# Altium integrated library WE-PD SMD Shielded Power Inductor.IntLib: 278 symbols (part 1 of 3)
Pins are listed as number, name and electrical type; pins without a type are passive.

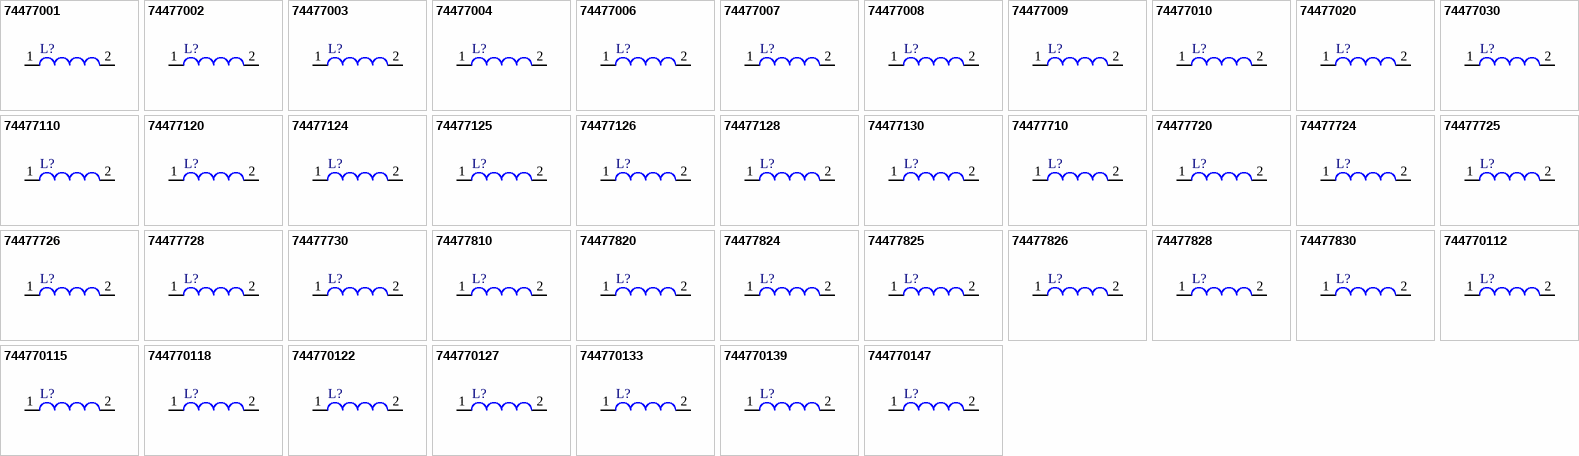
[diagram p0: symbols 74477001 to 744770147]

## 74477001
designator L?
SMD-Shielded Power Inductor WE-PD, L = 1.20 µH; PartNumber: 74477001; Inductance: 1.20 µH; DatasheetVersion: ver 5, Oct-2004; PackageReference: WE-PD-XL; PackageDescription: SMD Inductor, 2-Leads, Body 12.0 x 12.0 mm; ComponentLink1Description: Manufacturer URL; ComponentLink1URL: http://www.we-online.com; ComponentLink2Description: Datasheet; ComponentLink2URL: http://www.we-online.de/katalog/media/pdf/74477001.pdf
footprint WE-PD-XL (SMD Inductor, 2-Leads, Body 12.0x12.0x8.0 mm)
pins: 1, 2

## 74477002
designator L?
SMD-Shielded Power Inductor WE-PD, L = 2.40 µH; PartNumber: 74477002; Inductance: 2.40 µH; DatasheetVersion: ver 5, Oct-2004; PackageReference: WE-PD-XL; PackageDescription: SMD Inductor, 2-Leads, Body 12.0 x 12.0 mm; ComponentLink1Description: Manufacturer URL; ComponentLink1URL: http://www.we-online.com; ComponentLink2Description: Datasheet; ComponentLink2URL: http://www.we-online.de/katalog/media/pdf/74477002.pdf
footprint WE-PD-XL (SMD Inductor, 2-Leads, Body 12.0x12.0x8.0 mm)
pins: 1, 2

## 74477003
designator L?
SMD-Shielded Power Inductor WE-PD, L = 3.50 µH; PartNumber: 74477003; Inductance: 3.50 µH; DatasheetVersion: ver 5, Oct-2004; PackageReference: WE-PD-XL; PackageDescription: SMD Inductor, 2-Leads, Body 12.0 x 12.0 mm; ComponentLink1Description: Manufacturer URL; ComponentLink1URL: http://www.we-online.com; ComponentLink2Description: Datasheet; ComponentLink2URL: http://www.we-online.de/katalog/media/pdf/74477003.pdf
footprint WE-PD-XL (SMD Inductor, 2-Leads, Body 12.0x12.0x8.0 mm)
pins: 1, 2

## 74477004
designator L?
SMD-Shielded Power Inductor WE-PD, L = 4.70 µH; PartNumber: 74477004; Inductance: 4.70 µH; DatasheetVersion: ver 5, Oct-2004; PackageReference: WE-PD-XL; PackageDescription: SMD Inductor, 2-Leads, Body 12.0 x 12.0 mm; ComponentLink1Description: Manufacturer URL; ComponentLink1URL: http://www.we-online.com; ComponentLink2Description: Datasheet; ComponentLink2URL: http://www.we-online.de/katalog/media/pdf/74477004.pdf
footprint WE-PD-XL (SMD Inductor, 2-Leads, Body 12.0x12.0x8.0 mm)
pins: 1, 2

## 74477006
designator L?
SMD-Shielded Power Inductor WE-PD, L = 6.10 µH; PartNumber: 74477006; Inductance: 6.10 µH; DatasheetVersion: ver 5, Oct-2004; PackageReference: WE-PD-XL; PackageDescription: SMD Inductor, 2-Leads, Body 12.0 x 12.0 mm; ComponentLink1Description: Manufacturer URL; ComponentLink1URL: http://www.we-online.com; ComponentLink2Description: Datasheet; ComponentLink2URL: http://www.we-online.de/katalog/media/pdf/74477006.pdf
footprint WE-PD-XL (SMD Inductor, 2-Leads, Body 12.0x12.0x8.0 mm)
pins: 1, 2

## 74477007
designator L?
SMD-Shielded Power Inductor WE-PD, L = 7.60 µH; PartNumber: 74477007; Inductance: 7.60 µH; DatasheetVersion: ver 5, Oct-2004; PackageReference: WE-PD-XL; PackageDescription: SMD Inductor, 2-Leads, Body 12.0 x 12.0 mm; ComponentLink1Description: Manufacturer URL; ComponentLink1URL: http://www.we-online.com; ComponentLink2Description: Datasheet; ComponentLink2URL: http://www.we-online.de/katalog/media/pdf/74477007.pdf
footprint WE-PD-XL (SMD Inductor, 2-Leads, Body 12.0x12.0x8.0 mm)
pins: 1, 2

## 74477008
designator L?
SMD-Shielded Power Inductor WE-PD, L = 0.75 µH; PartNumber: 74477008; Inductance: 0.75 µH; DatasheetVersion: ver 5, Oct-2004; PackageReference: WE-PD-XL; PackageDescription: SMD Inductor, 2-Leads, Body 12.0 x 12.0 mm; ComponentLink1Description: Manufacturer URL; ComponentLink1URL: http://www.we-online.com; ComponentLink2Description: Datasheet; ComponentLink2URL: http://www.we-online.de/katalog/media/pdf/74477008.pdf
footprint WE-PD-XL (SMD Inductor, 2-Leads, Body 12.0x12.0x8.0 mm)
pins: 1, 2

## 74477009
designator L?
SMD-Shielded Power Inductor WE-PD, L = 0.47 µH; PartNumber: 74477009; Inductance: 0.47 µH; DatasheetVersion: ver 5, Oct-2004; PackageReference: WE-PD-XL; PackageDescription: SMD Inductor, 2-Leads, Body 12.0 x 12.0 mm; ComponentLink1Description: Manufacturer URL; ComponentLink1URL: http://www.we-online.com; ComponentLink2Description: Datasheet; ComponentLink2URL: http://www.we-online.de/katalog/media/pdf/74477009.pdf
footprint WE-PD-XL (SMD Inductor, 2-Leads, Body 12.0x12.0x8.0 mm)
pins: 1, 2

## 74477010
designator L?
SMD-Shielded Power Inductor WE-PD, L = 10.0 µH; PartNumber: 74477010; Inductance: 10.0 µH; DatasheetVersion: ver 5, Oct-2004; PackageReference: WE-PD-XL; PackageDescription: SMD Inductor, 2-Leads, Body 12.0 x 12.0 mm; ComponentLink1Description: Manufacturer URL; ComponentLink1URL: http://www.we-online.com; ComponentLink2Description: Datasheet; ComponentLink2URL: http://www.we-online.de/katalog/media/pdf/74477010.pdf
footprint WE-PD-XL (SMD Inductor, 2-Leads, Body 12.0x12.0x8.0 mm)
pins: 1, 2

## 74477020
designator L?
SMD-Shielded Power Inductor WE-PD, L = 100 µH; PartNumber: 74477020; Inductance: 100 µH; DatasheetVersion: ver 5, Oct-2004; PackageReference: WE-PD-XL; PackageDescription: SMD Inductor, 2-Leads, Body 12.0 x 12.0 mm; ComponentLink1Description: Manufacturer URL; ComponentLink1URL: http://www.we-online.com; ComponentLink2Description: Datasheet; ComponentLink2URL: http://www.we-online.de/katalog/media/pdf/74477020.pdf
footprint WE-PD-XL (SMD Inductor, 2-Leads, Body 12.0x12.0x8.0 mm)
pins: 1, 2

## 74477030
designator L?
SMD-Shielded Power Inductor WE-PD, L = 1000 µH; PartNumber: 74477030; Inductance: 1000 µH; DatasheetVersion: ver 5, Oct-2004; PackageReference: WE-PD-XL; PackageDescription: SMD Inductor, 2-Leads, Body 12.0 x 12.0 mm; ComponentLink1Description: Manufacturer URL; ComponentLink1URL: http://www.we-online.com; ComponentLink2Description: Datasheet; ComponentLink2URL: http://www.we-online.de/katalog/media/pdf/74477030.pdf
footprint WE-PD-XL (SMD Inductor, 2-Leads, Body 12.0x12.0x8.0 mm)
pins: 1, 2

## 74477110
designator L?
SMD-Shielded Power Inductor WE-PD, L = 10.0 µH; PartNumber: 74477110; Inductance: 10.0 µH; DatasheetVersion: ver 7, Sep-2006; PackageReference: WE-PD-L; PackageDescription: SMD Inductor, 2-Leads, Body 12.0 x 12.0 mm; ComponentLink1Description: Manufacturer URL; ComponentLink1URL: http://www.we-online.com; ComponentLink2Description: Datasheet; ComponentLink2URL: http://www.we-online.de/katalog/media/pdf/74477110.pdf
footprint WE-PD-L (SMD Inductor, 2-Leads, Body 12.0x12.0x6.0 mm)
pins: 1, 2

## 74477120
designator L?
SMD-Shielded Power Inductor WE-PD, L = 100 µH; PartNumber: 74477120; Inductance: 100 µH; DatasheetVersion: ver 6, Jun-2005; PackageReference: WE-PD-L; PackageDescription: SMD Inductor, 2-Leads, Body 12.0 x 12.0 mm; ComponentLink1Description: Manufacturer URL; ComponentLink1URL: http://www.we-online.com; ComponentLink2Description: Datasheet; ComponentLink2URL: http://www.we-online.de/katalog/media/pdf/74477120.pdf
footprint WE-PD-L (SMD Inductor, 2-Leads, Body 12.0x12.0x6.0 mm)
pins: 1, 2

## 74477124
designator L?
SMD-Shielded Power Inductor WE-PD, L = 470 µH; PartNumber: 74477124; Inductance: 470 µH; DatasheetVersion: ver 6, Jun-2005; PackageReference: WE-PD-L; PackageDescription: SMD Inductor, 2-Leads, Body 12.0 x 12.0 mm; ComponentLink1Description: Manufacturer URL; ComponentLink1URL: http://www.we-online.com; ComponentLink2Description: Datasheet; ComponentLink2URL: http://www.we-online.de/katalog/media/pdf/74477124.pdf
footprint WE-PD-L (SMD Inductor, 2-Leads, Body 12.0x12.0x6.0 mm)
pins: 1, 2

## 74477125
designator L?
SMD-Shielded Power Inductor WE-PD, L = 560 µH; PartNumber: 74477125; Inductance: 560 µH; DatasheetVersion: ver 6, Jun-2005; PackageReference: WE-PD-L; PackageDescription: SMD Inductor, 2-Leads, Body 12.0 x 12.0 mm; ComponentLink1Description: Manufacturer URL; ComponentLink1URL: http://www.we-online.com; ComponentLink2Description: Datasheet; ComponentLink2URL: http://www.we-online.de/katalog/media/pdf/74477125.pdf
footprint WE-PD-L (SMD Inductor, 2-Leads, Body 12.0x12.0x6.0 mm)
pins: 1, 2

## 74477126
designator L?
SMD-Shielded Power Inductor WE-PD, L = 680 µH; PartNumber: 74477126; Inductance: 680 µH; DatasheetVersion: ver 6, Jun-2005; PackageReference: WE-PD-L; PackageDescription: SMD Inductor, 2-Leads, Body 12.0 x 12.0 mm; ComponentLink1Description: Manufacturer URL; ComponentLink1URL: http://www.we-online.com; ComponentLink2Description: Datasheet; ComponentLink2URL: http://www.we-online.de/katalog/media/pdf/74477126.pdf
footprint WE-PD-L (SMD Inductor, 2-Leads, Body 12.0x12.0x6.0 mm)
pins: 1, 2

## 74477128
designator L?
SMD-Shielded Power Inductor WE-PD, L = 820 µH; PartNumber: 74477128; Inductance: 820 µH; DatasheetVersion: ver 6, Jun-2005; PackageReference: WE-PD-L; PackageDescription: SMD Inductor, 2-Leads, Body 12.0 x 12.0 mm; ComponentLink1Description: Manufacturer URL; ComponentLink1URL: http://www.we-online.com; ComponentLink2Description: Datasheet; ComponentLink2URL: http://www.we-online.de/katalog/media/pdf/74477128.pdf
footprint WE-PD-L (SMD Inductor, 2-Leads, Body 12.0x12.0x6.0 mm)
pins: 1, 2

## 74477130
designator L?
SMD-Shielded Power Inductor WE-PD, L = 1000 µH; PartNumber: 74477130; Inductance: 1000 µH; DatasheetVersion: ver 6, Jun-2005; PackageReference: WE-PD-L; PackageDescription: SMD Inductor, 2-Leads, Body 12.0 x 12.0 mm; ComponentLink1Description: Manufacturer URL; ComponentLink1URL: http://www.we-online.com; ComponentLink2Description: Datasheet; ComponentLink2URL: http://www.we-online.de/katalog/media/pdf/74477130.pdf
footprint WE-PD-L (SMD Inductor, 2-Leads, Body 12.0x12.0x6.0 mm)
pins: 1, 2

## 74477710
designator L?
SMD-Shielded Power Inductor WE-PD, L = 10.0 µH; PartNumber: 74477710; Inductance: 10.0 µH; DatasheetVersion: ver 2, Oct-2004; PackageReference: WE-PD-M; PackageDescription: SMD Inductor, 2-Leads, Body 7.3 x 7.3 mm; ComponentLink1Description: Manufacturer URL; ComponentLink1URL: http://www.we-online.com; ComponentLink2Description: Datasheet; ComponentLink2URL: http://www.we-online.de/katalog/media/pdf/74477710.pdf
footprint WE-PD-M (SMD Inductor, 2-Leads, Body 7.3x7.3x4.5 mm)
pins: 1, 2

## 74477720
designator L?
SMD-Shielded Power Inductor WE-PD, L = 100 µH; PartNumber: 74477720; Inductance: 100 µH; DatasheetVersion: ver 2, Oct-2004; PackageReference: WE-PD-M; PackageDescription: SMD Inductor, 2-Leads, Body 7.3 x 7.3 mm; ComponentLink1Description: Manufacturer URL; ComponentLink1URL: http://www.we-online.com; ComponentLink2Description: Datasheet; ComponentLink2URL: http://www.we-online.de/katalog/media/pdf/74477720.pdf
footprint WE-PD-M (SMD Inductor, 2-Leads, Body 7.3x7.3x4.5 mm)
pins: 1, 2

## 74477724
designator L?
SMD-Shielded Power Inductor WE-PD, L = 470 µH; PartNumber: 74477724; Inductance: 470 µH; DatasheetVersion: ver 2, Oct-2004; PackageReference: WE-PD-M; PackageDescription: SMD Inductor, 2-Leads, Body 7.3 x 7.3 mm; ComponentLink1Description: Manufacturer URL; ComponentLink1URL: http://www.we-online.com; ComponentLink2Description: Datasheet; ComponentLink2URL: http://www.we-online.de/katalog/media/pdf/74477724.pdf
footprint WE-PD-M (SMD Inductor, 2-Leads, Body 7.3x7.3x4.5 mm)
pins: 1, 2

## 74477725
designator L?
SMD-Shielded Power Inductor WE-PD, L = 560 µH; PartNumber: 74477725; Inductance: 560 µH; DatasheetVersion: ver 2, Oct-2004; PackageReference: WE-PD-M; PackageDescription: SMD Inductor, 2-Leads, Body 7.3 x 7.3 mm; ComponentLink1Description: Manufacturer URL; ComponentLink1URL: http://www.we-online.com; ComponentLink2Description: Datasheet; ComponentLink2URL: http://www.we-online.de/katalog/media/pdf/74477725.pdf
footprint WE-PD-M (SMD Inductor, 2-Leads, Body 7.3x7.3x4.5 mm)
pins: 1, 2

## 74477726
designator L?
SMD-Shielded Power Inductor WE-PD, L = 680 µH; PartNumber: 74477726; Inductance: 680 µH; DatasheetVersion: ver 2, Oct-2004; PackageReference: WE-PD-M; PackageDescription: SMD Inductor, 2-Leads, Body 7.3 x 7.3 mm; ComponentLink1Description: Manufacturer URL; ComponentLink1URL: http://www.we-online.com; ComponentLink2Description: Datasheet; ComponentLink2URL: http://www.we-online.de/katalog/media/pdf/74477726.pdf
footprint WE-PD-M (SMD Inductor, 2-Leads, Body 7.3x7.3x4.5 mm)
pins: 1, 2

## 74477728
designator L?
SMD-Shielded Power Inductor WE-PD, L = 820 µH; PartNumber: 74477728; Inductance: 820 µH; DatasheetVersion: ver 2, Oct-2004; PackageReference: WE-PD-M; PackageDescription: SMD Inductor, 2-Leads, Body 7.3 x 7.3 mm; ComponentLink1Description: Manufacturer URL; ComponentLink1URL: http://www.we-online.com; ComponentLink2Description: Datasheet; ComponentLink2URL: http://www.we-online.de/katalog/media/pdf/74477728.pdf
footprint WE-PD-M (SMD Inductor, 2-Leads, Body 7.3x7.3x4.5 mm)
pins: 1, 2

## 74477730
designator L?
SMD-Shielded Power Inductor WE-PD, L = 1000 µH; PartNumber: 74477730; Inductance: 1000 µH; DatasheetVersion: ver 4, Oct-2004; PackageReference: WE-PD-M; PackageDescription: SMD Inductor, 2-Leads, Body 7.3 x 7.3 mm; ComponentLink1Description: Manufacturer URL; ComponentLink1URL: http://www.we-online.com; ComponentLink2Description: Datasheet; ComponentLink2URL: http://www.we-online.de/katalog/media/pdf/74477730.pdf
footprint WE-PD-M (SMD Inductor, 2-Leads, Body 7.3x7.3x4.5 mm)
pins: 1, 2

## 74477810
designator L?
SMD-Shielded Power Inductor WE-PD, L = 10.0 µH; PartNumber: 74477810; Inductance: 10.0 µH; DatasheetVersion: ver 6, Oct-2001; PackageReference: WE-PD-S; PackageDescription: SMD Inductor, 2-Leads, Body 7.3 x 7.3 mm; ComponentLink1Description: Manufacturer URL; ComponentLink1URL: http://www.we-online.com; ComponentLink2Description: Datasheet; ComponentLink2URL: http://www.we-online.de/katalog/media/pdf/74477810.pdf
footprint WE-PD-S (SMD Inductor, 2-Leads, Body 7.3x7.3x3.4 mm)
pins: 1, 2

## 74477820
designator L?
SMD-Shielded Power Inductor WE-PD, L = 100 µH; PartNumber: 74477820; Inductance: 100 µH; DatasheetVersion: ver 5, Oct-2004; PackageReference: WE-PD-S; PackageDescription: SMD Inductor, 2-Leads, Body 7.3 x 7.3 mm; ComponentLink1Description: Manufacturer URL; ComponentLink1URL: http://www.we-online.com; ComponentLink2Description: Datasheet; ComponentLink2URL: http://www.we-online.de/katalog/media/pdf/74477820.pdf
footprint WE-PD-S (SMD Inductor, 2-Leads, Body 7.3x7.3x3.4 mm)
pins: 1, 2

## 74477824
designator L?
SMD-Shielded Power Inductor WE-PD, L = 470 µH; PartNumber: 74477824; Inductance: 470 µH; DatasheetVersion: ver 5, Oct-2004; PackageReference: WE-PD-S; PackageDescription: SMD Inductor, 2-Leads, Body 7.3 x 7.3 mm; ComponentLink1Description: Manufacturer URL; ComponentLink1URL: http://www.we-online.com; ComponentLink2Description: Datasheet; ComponentLink2URL: http://www.we-online.de/katalog/media/pdf/74477824.pdf
footprint WE-PD-S (SMD Inductor, 2-Leads, Body 7.3x7.3x3.4 mm)
pins: 1, 2

## 74477825
designator L?
SMD-Shielded Power Inductor WE-PD, L = 560 µH; PartNumber: 74477825; Inductance: 560 µH; DatasheetVersion: ver 5, Oct-2004; PackageReference: WE-PD-S; PackageDescription: SMD Inductor, 2-Leads, Body 7.3 x 7.3 mm; ComponentLink1Description: Manufacturer URL; ComponentLink1URL: http://www.we-online.com; ComponentLink2Description: Datasheet; ComponentLink2URL: http://www.we-online.de/katalog/media/pdf/74477825.pdf
footprint WE-PD-S (SMD Inductor, 2-Leads, Body 7.3x7.3x3.4 mm)
pins: 1, 2

## 74477826
designator L?
SMD-Shielded Power Inductor WE-PD, L = 680 µH; PartNumber: 74477826; Inductance: 680 µH; DatasheetVersion: ver 5, Oct-2004; PackageReference: WE-PD-S; PackageDescription: SMD Inductor, 2-Leads, Body 7.3 x 7.3 mm; ComponentLink1Description: Manufacturer URL; ComponentLink1URL: http://www.we-online.com; ComponentLink2Description: Datasheet; ComponentLink2URL: http://www.we-online.de/katalog/media/pdf/74477826.pdf
footprint WE-PD-S (SMD Inductor, 2-Leads, Body 7.3x7.3x3.4 mm)
pins: 1, 2

## 74477828
designator L?
SMD-Shielded Power Inductor WE-PD, L = 820 µH; PartNumber: 74477828; Inductance: 820 µH; DatasheetVersion: ver 5, Oct-2004; PackageReference: WE-PD-S; PackageDescription: SMD Inductor, 2-Leads, Body 7.3 x 7.3 mm; ComponentLink1Description: Manufacturer URL; ComponentLink1URL: http://www.we-online.com; ComponentLink2Description: Datasheet; ComponentLink2URL: http://www.we-online.de/katalog/media/pdf/74477828.pdf
footprint WE-PD-S (SMD Inductor, 2-Leads, Body 7.3x7.3x3.4 mm)
pins: 1, 2

## 74477830
designator L?
SMD-Shielded Power Inductor WE-PD, L = 1000 µH; PartNumber: 74477830; Inductance: 1000 µH; DatasheetVersion: ver 5, Oct-2004; PackageReference: WE-PD-S; PackageDescription: SMD Inductor, 2-Leads, Body 7.3 x 7.3 mm; ComponentLink1Description: Manufacturer URL; ComponentLink1URL: http://www.we-online.com; ComponentLink2Description: Datasheet; ComponentLink2URL: http://www.we-online.de/katalog/media/pdf/74477830.pdf
footprint WE-PD-S (SMD Inductor, 2-Leads, Body 7.3x7.3x3.4 mm)
pins: 1, 2

## 744770112
designator L?
SMD-Shielded Power Inductor WE-PD, L = 12.0 µH; PartNumber: 744770112; Inductance: 12.0 µH; DatasheetVersion: ver 5, Oct-2004; PackageReference: WE-PD-XL; PackageDescription: SMD Inductor, 2-Leads, Body 12.0 x 12.0 mm; ComponentLink1Description: Manufacturer URL; ComponentLink1URL: http://www.we-online.com; ComponentLink2Description: Datasheet; ComponentLink2URL: http://www.we-online.de/katalog/media/pdf/744770112.pdf
footprint WE-PD-XL (SMD Inductor, 2-Leads, Body 12.0x12.0x8.0 mm)
pins: 1, 2

## 744770115
designator L?
SMD-Shielded Power Inductor WE-PD, L = 15.0 µH; PartNumber: 744770115; Inductance: 15.0 µH; DatasheetVersion: ver 5, Oct-2004; PackageReference: WE-PD-XL; PackageDescription: SMD Inductor, 2-Leads, Body 12.0 x 12.0 mm; ComponentLink1Description: Manufacturer URL; ComponentLink1URL: http://www.we-online.com; ComponentLink2Description: Datasheet; ComponentLink2URL: http://www.we-online.de/katalog/media/pdf/744770115.pdf
footprint WE-PD-XL (SMD Inductor, 2-Leads, Body 12.0x12.0x8.0 mm)
pins: 1, 2

## 744770118
designator L?
SMD-Shielded Power Inductor WE-PD, L = 18.0 µH; PartNumber: 744770118; Inductance: 18.0 µH; DatasheetVersion: ver 5, Oct-2004; PackageReference: WE-PD-XL; PackageDescription: SMD Inductor, 2-Leads, Body 12.0 x 12.0 mm; ComponentLink1Description: Manufacturer URL; ComponentLink1URL: http://www.we-online.com; ComponentLink2Description: Datasheet; ComponentLink2URL: http://www.we-online.de/katalog/media/pdf/744770118.pdf
footprint WE-PD-XL (SMD Inductor, 2-Leads, Body 12.0x12.0x8.0 mm)
pins: 1, 2

## 744770122
designator L?
SMD-Shielded Power Inductor WE-PD, L = 22.0 µH; PartNumber: 744770122; Inductance: 22.0 µH; DatasheetVersion: ver 5, Oct-2004; PackageReference: WE-PD-XL; PackageDescription: SMD Inductor, 2-Leads, Body 12.0 x 12.0 mm; ComponentLink1Description: Manufacturer URL; ComponentLink1URL: http://www.we-online.com; ComponentLink2Description: Datasheet; ComponentLink2URL: http://www.we-online.de/katalog/media/pdf/744770122.pdf
footprint WE-PD-XL (SMD Inductor, 2-Leads, Body 12.0x12.0x8.0 mm)
pins: 1, 2

## 744770127
designator L?
SMD-Shielded Power Inductor WE-PD, L = 27.0 µH; PartNumber: 744770127; Inductance: 27.0 µH; DatasheetVersion: ver 5, Oct-2004; PackageReference: WE-PD-XL; PackageDescription: SMD Inductor, 2-Leads, Body 12.0 x 12.0 mm; ComponentLink1Description: Manufacturer URL; ComponentLink1URL: http://www.we-online.com; ComponentLink2Description: Datasheet; ComponentLink2URL: http://www.we-online.de/katalog/media/pdf/744770127.pdf
footprint WE-PD-XL (SMD Inductor, 2-Leads, Body 12.0x12.0x8.0 mm)
pins: 1, 2

## 744770133
designator L?
SMD-Shielded Power Inductor WE-PD, L = 33.0 µH; PartNumber: 744770133; Inductance: 33.0 µH; DatasheetVersion: ver 5, Oct-2004; PackageReference: WE-PD-XL; PackageDescription: SMD Inductor, 2-Leads, Body 12.0 x 12.0 mm; ComponentLink1Description: Manufacturer URL; ComponentLink1URL: http://www.we-online.com; ComponentLink2Description: Datasheet; ComponentLink2URL: http://www.we-online.de/katalog/media/pdf/744770133.pdf
footprint WE-PD-XL (SMD Inductor, 2-Leads, Body 12.0x12.0x8.0 mm)
pins: 1, 2

## 744770139
designator L?
SMD-Shielded Power Inductor WE-PD, L = 39.0 µH; PartNumber: 744770139; Inductance: 39.0 µH; DatasheetVersion: ver 5, Oct-2004; PackageReference: WE-PD-XL; PackageDescription: SMD Inductor, 2-Leads, Body 12.0 x 12.0 mm; ComponentLink1Description: Manufacturer URL; ComponentLink1URL: http://www.we-online.com; ComponentLink2Description: Datasheet; ComponentLink2URL: http://www.we-online.de/katalog/media/pdf/744770139.pdf
footprint WE-PD-XL (SMD Inductor, 2-Leads, Body 12.0x12.0x8.0 mm)
pins: 1, 2

## 744770147
designator L?
SMD-Shielded Power Inductor WE-PD, L = 47.0 µH; PartNumber: 744770147; Inductance: 47.0 µH; DatasheetVersion: ver 5, Oct-2004; PackageReference: WE-PD-XL; PackageDescription: SMD Inductor, 2-Leads, Body 12.0 x 12.0 mm; ComponentLink1Description: Manufacturer URL; ComponentLink1URL: http://www.we-online.com; ComponentLink2Description: Datasheet; ComponentLink2URL: http://www.we-online.de/katalog/media/pdf/744770147.pdf
footprint WE-PD-XL (SMD Inductor, 2-Leads, Body 12.0x12.0x8.0 mm)
pins: 1, 2

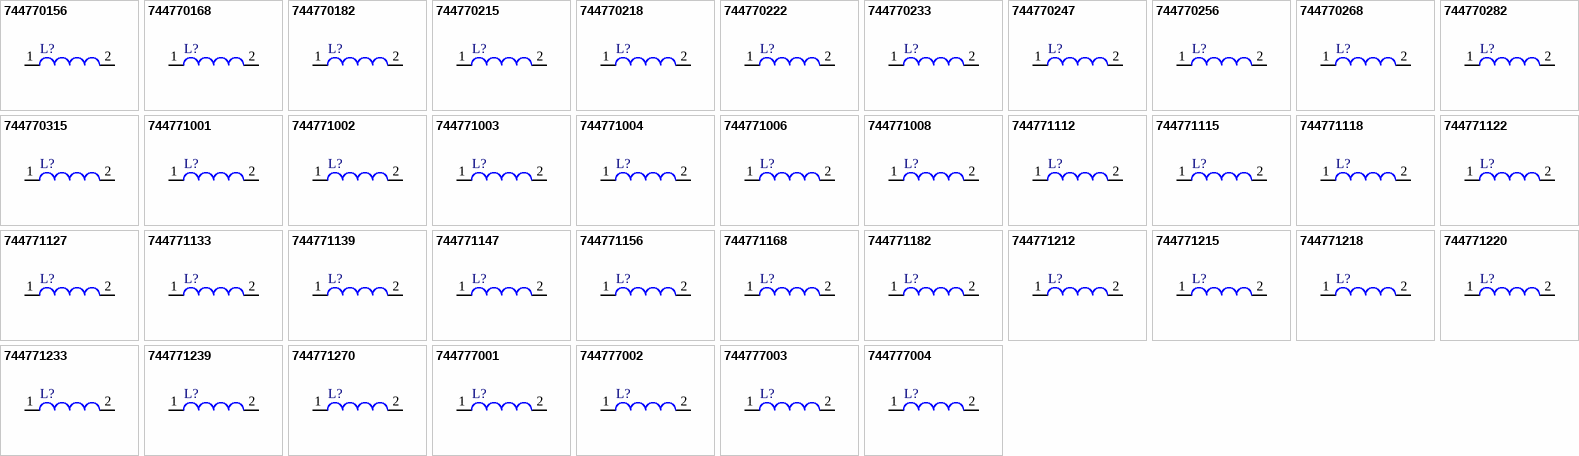
[diagram p1: symbols 744770156 to 744777004]

## 744770156
designator L?
SMD-Shielded Power Inductor WE-PD, L = 56.0 µH; PartNumber: 744770156; Inductance: 56.0 µH; DatasheetVersion: ver 5, Oct-2004; PackageReference: WE-PD-XL; PackageDescription: SMD Inductor, 2-Leads, Body 12.0 x 12.0 mm; ComponentLink1Description: Manufacturer URL; ComponentLink1URL: http://www.we-online.com; ComponentLink2Description: Datasheet; ComponentLink2URL: http://www.we-online.de/katalog/media/pdf/744770156.pdf
footprint WE-PD-XL (SMD Inductor, 2-Leads, Body 12.0x12.0x8.0 mm)
pins: 1, 2

## 744770168
designator L?
SMD-Shielded Power Inductor WE-PD, L = 68.0 µH; PartNumber: 744770168; Inductance: 68.0 µH; DatasheetVersion: ver 5, Oct-2004; PackageReference: WE-PD-XL; PackageDescription: SMD Inductor, 2-Leads, Body 12.0 x 12.0 mm; ComponentLink1Description: Manufacturer URL; ComponentLink1URL: http://www.we-online.com; ComponentLink2Description: Datasheet; ComponentLink2URL: http://www.we-online.de/katalog/media/pdf/744770168.pdf
footprint WE-PD-XL (SMD Inductor, 2-Leads, Body 12.0x12.0x8.0 mm)
pins: 1, 2

## 744770182
designator L?
SMD-Shielded Power Inductor WE-PD, L = 82.0 µH; PartNumber: 744770182; Inductance: 82.0 µH; DatasheetVersion: ver 6, Sep-2006; PackageReference: WE-PD-XL; PackageDescription: SMD Inductor, 2-Leads, Body 12.0 x 12.0 mm; ComponentLink1Description: Manufacturer URL; ComponentLink1URL: http://www.we-online.com; ComponentLink2Description: Datasheet; ComponentLink2URL: http://www.we-online.de/katalog/media/pdf/744770182.pdf
footprint WE-PD-XL (SMD Inductor, 2-Leads, Body 12.0x12.0x8.0 mm)
pins: 1, 2

## 744770215
designator L?
SMD-Shielded Power Inductor WE-PD, L = 150 µH; PartNumber: 744770215; Inductance: 150 µH; DatasheetVersion: ver 1, Jan-2006; PackageReference: WE-PD-XL; PackageDescription: SMD Inductor, 2-Leads, Body 12.0 x 12.0 mm; ComponentLink1Description: Manufacturer URL; ComponentLink1URL: http://www.we-online.com; ComponentLink2Description: Datasheet; ComponentLink2URL: http://www.we-online.de/katalog/media/pdf/744770215.pdf
footprint WE-PD-XL (SMD Inductor, 2-Leads, Body 12.0x12.0x8.0 mm)
pins: 1, 2

## 744770218
designator L?
SMD-Shielded Power Inductor WE-PD, L = 180 µH; PartNumber: 744770218; Inductance: 180 µH; DatasheetVersion: ver 5, Oct-2004; PackageReference: WE-PD-XL; PackageDescription: SMD Inductor, 2-Leads, Body 12.0 x 12.0 mm; ComponentLink1Description: Manufacturer URL; ComponentLink1URL: http://www.we-online.com; ComponentLink2Description: Datasheet; ComponentLink2URL: http://www.we-online.de/katalog/media/pdf/744770218.pdf
footprint WE-PD-XL (SMD Inductor, 2-Leads, Body 12.0x12.0x8.0 mm)
pins: 1, 2

## 744770222
designator L?
SMD-Shielded Power Inductor WE-PD, L = 220 µH; PartNumber: 744770222; Inductance: 220 µH; DatasheetVersion: ver 5, Oct-2004; PackageReference: WE-PD-XL; PackageDescription: SMD Inductor, 2-Leads, Body 12.0 x 12.0 mm; ComponentLink1Description: Manufacturer URL; ComponentLink1URL: http://www.we-online.com; ComponentLink2Description: Datasheet; ComponentLink2URL: http://www.we-online.de/katalog/media/pdf/744770222.pdf
footprint WE-PD-XL (SMD Inductor, 2-Leads, Body 12.0x12.0x8.0 mm)
pins: 1, 2

## 744770233
designator L?
SMD-Shielded Power Inductor WE-PD, L = 330 µH; PartNumber: 744770233; Inductance: 330 µH; DatasheetVersion: ver 5, Oct-2004; PackageReference: WE-PD-XL; PackageDescription: SMD Inductor, 2-Leads, Body 12.0 x 12.0 mm; ComponentLink1Description: Manufacturer URL; ComponentLink1URL: http://www.we-online.com; ComponentLink2Description: Datasheet; ComponentLink2URL: http://www.we-online.de/katalog/media/pdf/744770233.pdf
footprint WE-PD-XL (SMD Inductor, 2-Leads, Body 12.0x12.0x8.0 mm)
pins: 1, 2

## 744770247
designator L?
SMD-Shielded Power Inductor WE-PD, L = 470 µH; PartNumber: 744770247; Inductance: 470 µH; DatasheetVersion: ver 5, Oct-2004; PackageReference: WE-PD-XL; PackageDescription: SMD Inductor, 2-Leads, Body 12.0 x 12.0 mm; ComponentLink1Description: Manufacturer URL; ComponentLink1URL: http://www.we-online.com; ComponentLink2Description: Datasheet; ComponentLink2URL: http://www.we-online.de/katalog/media/pdf/744770247.pdf
footprint WE-PD-XL (SMD Inductor, 2-Leads, Body 12.0x12.0x8.0 mm)
pins: 1, 2

## 744770256
designator L?
SMD-Shielded Power Inductor WE-PD, L = 560 µH; PartNumber: 744770256; Inductance: 560 µH; DatasheetVersion: ver 5, Oct-2004; PackageReference: WE-PD-XL; PackageDescription: SMD Inductor, 2-Leads, Body 12.0 x 12.0 mm; ComponentLink1Description: Manufacturer URL; ComponentLink1URL: http://www.we-online.com; ComponentLink2Description: Datasheet; ComponentLink2URL: http://www.we-online.de/katalog/media/pdf/744770256.pdf
footprint WE-PD-XL (SMD Inductor, 2-Leads, Body 12.0x12.0x8.0 mm)
pins: 1, 2

## 744770268
designator L?
SMD-Shielded Power Inductor WE-PD, L = 680 µH; PartNumber: 744770268; Inductance: 680 µH; DatasheetVersion: ver 5, Oct-2004; PackageReference: WE-PD-XL; PackageDescription: SMD Inductor, 2-Leads, Body 12.0 x 12.0 mm; ComponentLink1Description: Manufacturer URL; ComponentLink1URL: http://www.we-online.com; ComponentLink2Description: Datasheet; ComponentLink2URL: http://www.we-online.de/katalog/media/pdf/744770268.pdf
footprint WE-PD-XL (SMD Inductor, 2-Leads, Body 12.0x12.0x8.0 mm)
pins: 1, 2

## 744770282
designator L?
SMD-Shielded Power Inductor WE-PD, L = 820 µH; PartNumber: 744770282; Inductance: 820 µH; DatasheetVersion: ver 5, Oct-2004; PackageReference: WE-PD-XL; PackageDescription: SMD Inductor, 2-Leads, Body 12.0 x 12.0 mm; ComponentLink1Description: Manufacturer URL; ComponentLink1URL: http://www.we-online.com; ComponentLink2Description: Datasheet; ComponentLink2URL: http://www.we-online.de/katalog/media/pdf/744770282.pdf
footprint WE-PD-XL (SMD Inductor, 2-Leads, Body 12.0x12.0x8.0 mm)
pins: 1, 2

## 744770315
designator L?
SMD-Shielded Power Inductor WE-PD, L=1500 µH; PartNumber: 744770315; Inductance: 1500 µH; PackageReference: WE-PD-XL; PackageDescription: SMD Inductor, 2-Leads, Body 12.0 x 12.0 mm; ComponentLink1Description: Manufacturer URL; ComponentLink1URL: http://www.we-online.com; ComponentLink2Description: Datasheet; ComponentLink2URL: http://www.we-online.de/katalog/media/pdf/744770315.pdf
footprint WE-PD-XL (SMD Inductor, 2-Leads, Body 12.0x12.0x8.0 mm)
pins: 1, 2

## 744771001
designator L?
SMD-Shielded Power Inductor WE-PD, L = 1.50 µH; PartNumber: 744771001; Inductance: 1.50 µH; DatasheetVersion: ver 7, Sep-2006; PackageReference: WE-PD-L; PackageDescription: SMD Inductor, 2-Leads, Body 12.0 x 12.0 mm; ComponentLink1Description: Manufacturer URL; ComponentLink1URL: http://www.we-online.com; ComponentLink2Description: Datasheet; ComponentLink2URL: http://www.we-online.de/katalog/media/pdf/744771001.pdf
footprint WE-PD-L (SMD Inductor, 2-Leads, Body 12.0x12.0x6.0 mm)
pins: 1, 2

## 744771002
designator L?
SMD-Shielded Power Inductor WE-PD, L = 2.20 µH; PartNumber: 744771002; Inductance: 2.20 µH; DatasheetVersion: ver 7, Sep-2006; PackageReference: WE-PD-L; PackageDescription: SMD Inductor, 2-Leads, Body 12.0 x 12.0 mm; ComponentLink1Description: Manufacturer URL; ComponentLink1URL: http://www.we-online.com; ComponentLink2Description: Datasheet; ComponentLink2URL: http://www.we-online.de/katalog/media/pdf/744771002.pdf
footprint WE-PD-L (SMD Inductor, 2-Leads, Body 12.0x12.0x6.0 mm)
pins: 1, 2

## 744771003
designator L?
SMD-Shielded Power Inductor WE-PD, L = 3.50 µH; PartNumber: 744771003; Inductance: 3.50 µH; DatasheetVersion: ver 7, Sep-2006; PackageReference: WE-PD-L; PackageDescription: SMD Inductor, 2-Leads, Body 12.0 x 12.0 mm; ComponentLink1Description: Manufacturer URL; ComponentLink1URL: http://www.we-online.com; ComponentLink2Description: Datasheet; ComponentLink2URL: http://www.we-online.de/katalog/media/pdf/744771003.pdf
footprint WE-PD-L (SMD Inductor, 2-Leads, Body 12.0x12.0x6.0 mm)
pins: 1, 2

## 744771004
designator L?
SMD-Shielded Power Inductor WE-PD, L = 4.70 µH; PartNumber: 744771004; Inductance: 4.70 µH; DatasheetVersion: ver 7, Sep-2006; PackageReference: WE-PD-L; PackageDescription: SMD Inductor, 2-Leads, Body 12.0 x 12.0 mm; ComponentLink1Description: Manufacturer URL; ComponentLink1URL: http://www.we-online.com; ComponentLink2Description: Datasheet; ComponentLink2URL: http://www.we-online.de/katalog/media/pdf/744771004.pdf
footprint WE-PD-L (SMD Inductor, 2-Leads, Body 12.0x12.0x6.0 mm)
pins: 1, 2

## 744771006
designator L?
SMD-Shielded Power Inductor WE-PD, L = 6.80 µH; PartNumber: 744771006; Inductance: 6.80 µH; DatasheetVersion: ver 2, May-2009; PackageReference: WE-PD-L; PackageDescription: SMD Inductor, 2-Leads, Body 12.0 x 12.0 mm; ComponentLink1Description: Manufacturer URL; ComponentLink1URL: http://www.we-online.com; ComponentLink2Description: Datasheet; ComponentLink2URL: http://www.we-online.de/katalog/media/pdf/744771006.pdf
footprint WE-PD-L (SMD Inductor, 2-Leads, Body 12.0x12.0x6.0 mm)
pins: 1, 2

## 744771008
designator L?
SMD-Shielded Power Inductor WE-PD, L = 8.20 µH; PartNumber: 744771008; Inductance: 8.20 µH; DatasheetVersion: ver 7, Sep-2006; PackageReference: WE-PD-L; PackageDescription: SMD Inductor, 2-Leads, Body 12.0 x 12.0 mm; ComponentLink1Description: Manufacturer URL; ComponentLink1URL: http://www.we-online.com; ComponentLink2Description: Datasheet; ComponentLink2URL: http://www.we-online.de/katalog/media/pdf/744771008.pdf
footprint WE-PD-L (SMD Inductor, 2-Leads, Body 12.0x12.0x6.0 mm)
pins: 1, 2

## 744771112
designator L?
SMD-Shielded Power Inductor WE-PD, L = 12.0 µH; PartNumber: 744771112; Inductance: 12.0 µH; DatasheetVersion: ver 6, Jun-2005; PackageReference: WE-PD-L; PackageDescription: SMD Inductor, 2-Leads, Body 12.0 x 12.0 mm; ComponentLink1Description: Manufacturer URL; ComponentLink1URL: http://www.we-online.com; ComponentLink2Description: Datasheet; ComponentLink2URL: http://www.we-online.de/katalog/media/pdf/744771112.pdf
footprint WE-PD-L (SMD Inductor, 2-Leads, Body 12.0x12.0x6.0 mm)
pins: 1, 2

## 744771115
designator L?
SMD-Shielded Power Inductor WE-PD, L = 15.0 µH; PartNumber: 744771115; Inductance: 15.0 µH; DatasheetVersion: ver 6, Jun-2005; PackageReference: WE-PD-L; PackageDescription: SMD Inductor, 2-Leads, Body 12.0 x 12.0 mm; ComponentLink1Description: Manufacturer URL; ComponentLink1URL: http://www.we-online.com; ComponentLink2Description: Datasheet; ComponentLink2URL: http://www.we-online.de/katalog/media/pdf/744771115.pdf
footprint WE-PD-L (SMD Inductor, 2-Leads, Body 12.0x12.0x6.0 mm)
pins: 1, 2

## 744771118
designator L?
SMD-Shielded Power Inductor WE-PD, L = 18.0 µH; PartNumber: 744771118; Inductance: 18.0 µH; DatasheetVersion: ver 6, Jun-2005; PackageReference: WE-PD-L; PackageDescription: SMD Inductor, 2-Leads, Body 12.0 x 12.0 mm; ComponentLink1Description: Manufacturer URL; ComponentLink1URL: http://www.we-online.com; ComponentLink2Description: Datasheet; ComponentLink2URL: http://www.we-online.de/katalog/media/pdf/744771118.pdf
footprint WE-PD-L (SMD Inductor, 2-Leads, Body 12.0x12.0x6.0 mm)
pins: 1, 2

## 744771122
designator L?
SMD-Shielded Power Inductor WE-PD, L = 22.0 µH; PartNumber: 744771122; Inductance: 22.0 µH; DatasheetVersion: ver 6, Jun-2005; PackageReference: WE-PD-L; PackageDescription: SMD Inductor, 2-Leads, Body 12.0 x 12.0 mm; ComponentLink1Description: Manufacturer URL; ComponentLink1URL: http://www.we-online.com; ComponentLink2Description: Datasheet; ComponentLink2URL: http://www.we-online.de/katalog/media/pdf/744771122.pdf
footprint WE-PD-L (SMD Inductor, 2-Leads, Body 12.0x12.0x6.0 mm)
pins: 1, 2

## 744771127
designator L?
SMD-Shielded Power Inductor WE-PD, L = 27.0 µH; PartNumber: 744771127; Inductance: 27.0 µH; DatasheetVersion: ver 6, Jun-2005; PackageReference: WE-PD-L; PackageDescription: SMD Inductor, 2-Leads, Body 12.0 x 12.0 mm; ComponentLink1Description: Manufacturer URL; ComponentLink1URL: http://www.we-online.com; ComponentLink2Description: Datasheet; ComponentLink2URL: http://www.we-online.de/katalog/media/pdf/744771127.pdf
footprint WE-PD-L (SMD Inductor, 2-Leads, Body 12.0x12.0x6.0 mm)
pins: 1, 2

## 744771133
designator L?
SMD-Shielded Power Inductor WE-PD, L = 33.0 µH; PartNumber: 744771133; Inductance: 33.0 µH; DatasheetVersion: ver 6, Jun-2005; PackageReference: WE-PD-L; PackageDescription: SMD Inductor, 2-Leads, Body 12.0 x 12.0 mm; ComponentLink1Description: Manufacturer URL; ComponentLink1URL: http://www.we-online.com; ComponentLink2Description: Datasheet; ComponentLink2URL: http://www.we-online.de/katalog/media/pdf/744771133.pdf
footprint WE-PD-L (SMD Inductor, 2-Leads, Body 12.0x12.0x6.0 mm)
pins: 1, 2

## 744771139
designator L?
SMD-Shielded Power Inductor WE-PD, L = 39.0 µH; PartNumber: 744771139; Inductance: 39.0 µH; DatasheetVersion: ver 6, Jun-2005; PackageReference: WE-PD-L; PackageDescription: SMD Inductor, 2-Leads, Body 12.0 x 12.0 mm; ComponentLink1Description: Manufacturer URL; ComponentLink1URL: http://www.we-online.com; ComponentLink2Description: Datasheet; ComponentLink2URL: http://www.we-online.de/katalog/media/pdf/744771139.pdf
footprint WE-PD-L (SMD Inductor, 2-Leads, Body 12.0x12.0x6.0 mm)
pins: 1, 2

## 744771147
designator L?
SMD-Shielded Power Inductor WE-PD, L = 47.0 µH; PartNumber: 744771147; Inductance: 47.0 µH; DatasheetVersion: ver 6, Jun-2005; PackageReference: WE-PD-L; PackageDescription: SMD Inductor, 2-Leads, Body 12.0 x 12.0 mm; ComponentLink1Description: Manufacturer URL; ComponentLink1URL: http://www.we-online.com; ComponentLink2Description: Datasheet; ComponentLink2URL: http://www.we-online.de/katalog/media/pdf/744771147.pdf
footprint WE-PD-L (SMD Inductor, 2-Leads, Body 12.0x12.0x6.0 mm)
pins: 1, 2

## 744771156
designator L?
SMD-Shielded Power Inductor WE-PD, L = 56.0 µH; PartNumber: 744771156; Inductance: 56.0 µH; DatasheetVersion: ver 6, Jun-2005; PackageReference: WE-PD-L; PackageDescription: SMD Inductor, 2-Leads, Body 12.0 x 12.0 mm; ComponentLink1Description: Manufacturer URL; ComponentLink1URL: http://www.we-online.com; ComponentLink2Description: Datasheet; ComponentLink2URL: http://www.we-online.de/katalog/media/pdf/744771156.pdf
footprint WE-PD-L (SMD Inductor, 2-Leads, Body 12.0x12.0x6.0 mm)
pins: 1, 2

## 744771168
designator L?
SMD-Shielded Power Inductor WE-PD, L = 68.0 µH; PartNumber: 744771168; Inductance: 68.0 µH; DatasheetVersion: ver 6, Jun-2005; PackageReference: WE-PD-L; PackageDescription: SMD Inductor, 2-Leads, Body 12.0 x 12.0 mm; ComponentLink1Description: Manufacturer URL; ComponentLink1URL: http://www.we-online.com; ComponentLink2Description: Datasheet; ComponentLink2URL: http://www.we-online.de/katalog/media/pdf/744771168.pdf
footprint WE-PD-L (SMD Inductor, 2-Leads, Body 12.0x12.0x6.0 mm)
pins: 1, 2

## 744771182
designator L?
SMD-Shielded Power Inductor WE-PD, L = 82.0 µH; PartNumber: 744771182; Inductance: 82.0 µH; DatasheetVersion: ver 6, Jun-2005; PackageReference: WE-PD-L; PackageDescription: SMD Inductor, 2-Leads, Body 12.0 x 12.0 mm; ComponentLink1Description: Manufacturer URL; ComponentLink1URL: http://www.we-online.com; ComponentLink2Description: Datasheet; ComponentLink2URL: http://www.we-online.de/katalog/media/pdf/744771182.pdf
footprint WE-PD-L (SMD Inductor, 2-Leads, Body 12.0x12.0x6.0 mm)
pins: 1, 2

## 744771212
designator L?
SMD-Shielded Power Inductor WE-PD, L = 120 µH; PartNumber: 744771212; Inductance: 120 µH; DatasheetVersion: ver 6, Jun-2005; PackageReference: WE-PD-L; PackageDescription: SMD Inductor, 2-Leads, Body 12.0 x 12.0 mm; ComponentLink1Description: Manufacturer URL; ComponentLink1URL: http://www.we-online.com; ComponentLink2Description: Datasheet; ComponentLink2URL: http://www.we-online.de/katalog/media/pdf/744771212.pdf
footprint WE-PD-L (SMD Inductor, 2-Leads, Body 12.0x12.0x6.0 mm)
pins: 1, 2

## 744771215
designator L?
SMD-Shielded Power Inductor WE-PD, L = 150 µH; PartNumber: 744771215; Inductance: 150 µH; DatasheetVersion: ver 6, Jun-2005; PackageReference: WE-PD-L; PackageDescription: SMD Inductor, 2-Leads, Body 12.0 x 12.0 mm; ComponentLink1Description: Manufacturer URL; ComponentLink1URL: http://www.we-online.com; ComponentLink2Description: Datasheet; ComponentLink2URL: http://www.we-online.de/katalog/media/pdf/744771215.pdf
footprint WE-PD-L (SMD Inductor, 2-Leads, Body 12.0x12.0x6.0 mm)
pins: 1, 2

## 744771218
designator L?
SMD-Shielded Power Inductor WE-PD, L = 1820 µH; PartNumber: 744771218; Inductance: 180 µH; DatasheetVersion: ver 6, Jun-2005; PackageReference: WE-PD-L; PackageDescription: SMD Inductor, 2-Leads, Body 12.0 x 12.0 mm; ComponentLink1Description: Manufacturer URL; ComponentLink1URL: http://www.we-online.com; ComponentLink2Description: Datasheet; ComponentLink2URL: http://www.we-online.de/katalog/media/pdf/744771218.pdf
footprint WE-PD-L (SMD Inductor, 2-Leads, Body 12.0x12.0x6.0 mm)
pins: 1, 2

## 744771220
designator L?
SMD-Shielded Power Inductor WE-PD, L = 220 µH; PartNumber: 744771220; Inductance: 220 µH; DatasheetVersion: ver 6, Jun-2005; PackageReference: WE-PD-L; PackageDescription: SMD Inductor, 2-Leads, Body 12.0 x 12.0 mm; ComponentLink1Description: Manufacturer URL; ComponentLink1URL: http://www.we-online.com; ComponentLink2Description: Datasheet; ComponentLink2URL: http://www.we-online.de/katalog/media/pdf/744771220.pdf
footprint WE-PD-L (SMD Inductor, 2-Leads, Body 12.0x12.0x6.0 mm)
pins: 1, 2

## 744771233
designator L?
SMD-Shielded Power Inductor WE-PD, L = 330 µH; PartNumber: 744771233; Inductance: 330 µH; DatasheetVersion: ver 6, Jun-2005; PackageReference: WE-PD-L; PackageDescription: SMD Inductor, 2-Leads, Body 12.0 x 12.0 mm; ComponentLink1Description: Manufacturer URL; ComponentLink1URL: http://www.we-online.com; ComponentLink2Description: Datasheet; ComponentLink2URL: http://www.we-online.de/katalog/media/pdf/744771233.pdf
footprint WE-PD-L (SMD Inductor, 2-Leads, Body 12.0x12.0x6.0 mm)
pins: 1, 2

## 744771239
designator L?
SMD-Shielded Power Inductor WE-PD, L = 390 µH; PartNumber: 744771239; Inductance: 390 µH; DatasheetVersion: ver 6, Jun-2005; PackageReference: WE-PD-L; PackageDescription: SMD Inductor, 2-Leads, Body 12.0 x 12.0 mm; ComponentLink1Description: Manufacturer URL; ComponentLink1URL: http://www.we-online.com; ComponentLink2Description: Datasheet; ComponentLink2URL: http://www.we-online.de/katalog/media/pdf/744771239.pdf
footprint WE-PD-L (SMD Inductor, 2-Leads, Body 12.0x12.0x6.0 mm)
pins: 1, 2

## 744771270
designator L?
SMD-Shielded Power Inductor WE-PD, L = 270 µH; PartNumber: 744771270; Inductance: 270 µH; DatasheetVersion: ver 6, Jun-2005; PackageReference: WE-PD-L; PackageDescription: SMD Inductor, 2-Leads, Body 12.0 x 12.0 mm; ComponentLink1Description: Manufacturer URL; ComponentLink1URL: http://www.we-online.com; ComponentLink2Description: Datasheet; ComponentLink2URL: http://www.we-online.de/katalog/media/pdf/744771270.pdf
footprint WE-PD-L (SMD Inductor, 2-Leads, Body 12.0x12.0x6.0 mm)
pins: 1, 2

## 744777001
designator L?
SMD-Shielded Power Inductor WE-PD, L = 1.00 µH; PartNumber: 744777001; Inductance: 1.00 µH; DatasheetVersion: Sep-2009; PackageReference: WE-PD-M; PackageDescription: SMD Inductor, 2-Leads, Body 7.3 x 7.3 mm; ComponentLink1Description: Manufacturer URL; ComponentLink1URL: http://www.we-online.com; ComponentLink2Description: Datasheet; ComponentLink2URL: http://www.we-online.de/katalog/media/pdf/744777001.pdf
footprint WE-PD-M (SMD Inductor, 2-Leads, Body 7.3x7.3x4.5 mm)
pins: 1, 2

## 744777002
designator L?
SMD-Shielded Power Inductor WE-PD, L = 2.20 µH; PartNumber: 744777002; Inductance: 2.20 µH; DatasheetVersion: ver 5, Sep-2006; PackageReference: WE-PD-M; PackageDescription: SMD Inductor, 2-Leads, Body 7.3 x 7.3 mm; ComponentLink1Description: Manufacturer URL; ComponentLink1URL: http://www.we-online.com; ComponentLink2Description: Datasheet; ComponentLink2URL: http://www.we-online.de/katalog/media/pdf/744777002.pdf
footprint WE-PD-M (SMD Inductor, 2-Leads, Body 7.3x7.3x4.5 mm)
pins: 1, 2

## 744777003
designator L?
SMD-Shielded Power Inductor WE-PD, L = 3.30 µH; PartNumber: 744777003; Inductance: 3.30 µH; DatasheetVersion: ver 5, Sep-2006; PackageReference: WE-PD-M; PackageDescription: SMD Inductor, 2-Leads, Body 7.3 x 7.3 mm; ComponentLink1Description: Manufacturer URL; ComponentLink1URL: http://www.we-online.com; ComponentLink2Description: Datasheet; ComponentLink2URL: http://www.we-online.de/katalog/media/pdf/744777003.pdf
footprint WE-PD-M (SMD Inductor, 2-Leads, Body 7.3x7.3x4.5 mm)
pins: 1, 2

## 744777004
designator L?
SMD-Shielded Power Inductor WE-PD, L = 4.70 µH; PartNumber: 744777004; Inductance: 4.70 µH; DatasheetVersion: ver 5, Sep-2006; PackageReference: WE-PD-M; PackageDescription: SMD Inductor, 2-Leads, Body 7.3 x 7.3 mm; ComponentLink1Description: Manufacturer URL; ComponentLink1URL: http://www.we-online.com; ComponentLink2Description: Datasheet; ComponentLink2URL: http://www.we-online.de/katalog/media/pdf/744777004.pdf
footprint WE-PD-M (SMD Inductor, 2-Leads, Body 7.3x7.3x4.5 mm)
pins: 1, 2

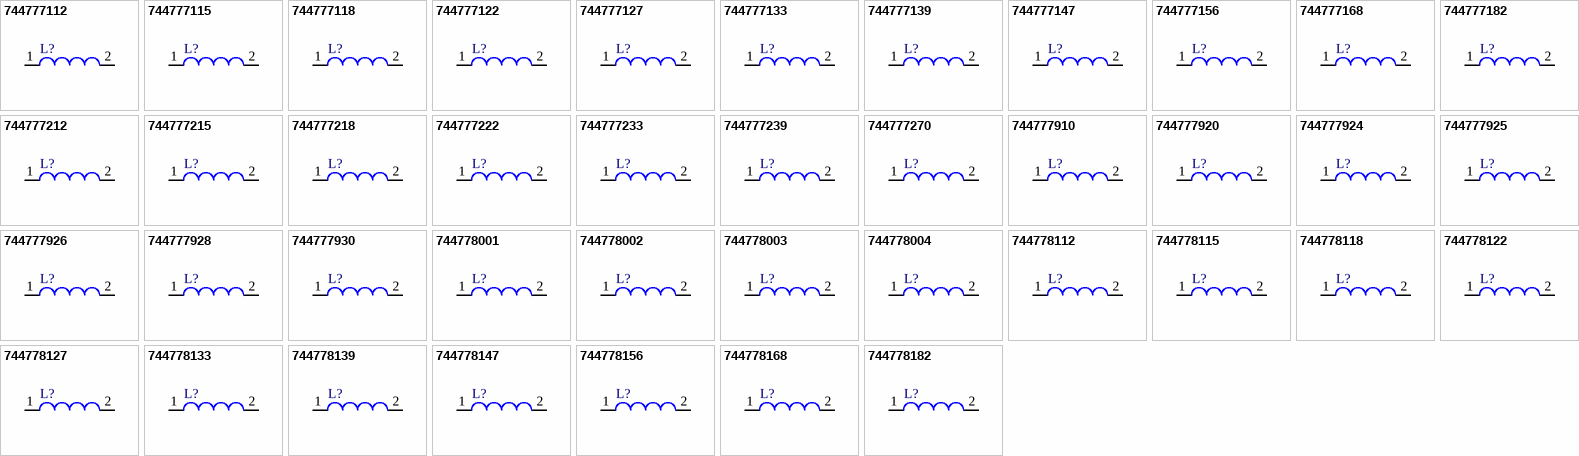
[diagram p2: symbols 744777112 to 744778182]

## 744777112
designator L?
SMD-Shielded Power Inductor WE-PD, L = 12.0 µH; PartNumber: 744777112; Inductance: 12.0 µH; DatasheetVersion: ver 2, Oct-2004; PackageReference: WE-PD-M; PackageDescription: SMD Inductor, 2-Leads, Body 7.3 x 7.3 mm; ComponentLink1Description: Manufacturer URL; ComponentLink1URL: http://www.we-online.com; ComponentLink2Description: Datasheet; ComponentLink2URL: http://www.we-online.de/katalog/media/pdf/744777112.pdf
footprint WE-PD-M (SMD Inductor, 2-Leads, Body 7.3x7.3x4.5 mm)
pins: 1, 2

## 744777115
designator L?
SMD-Shielded Power Inductor WE-PD, L = 15.0 µH; PartNumber: 744777115; Inductance: 15.0 µH; DatasheetVersion: ver 2, Oct-2004; PackageReference: WE-PD-M; PackageDescription: SMD Inductor, 2-Leads, Body 7.3 x 7.3 mm; ComponentLink1Description: Manufacturer URL; ComponentLink1URL: http://www.we-online.com; ComponentLink2Description: Datasheet; ComponentLink2URL: http://www.we-online.de/katalog/media/pdf/744777115.pdf
footprint WE-PD-M (SMD Inductor, 2-Leads, Body 7.3x7.3x4.5 mm)
pins: 1, 2

## 744777118
designator L?
SMD-Shielded Power Inductor WE-PD, L = 18.0 µH; PartNumber: 744777118; Inductance: 18.0 µH; DatasheetVersion: ver 2, Oct-2004; PackageReference: WE-PD-M; PackageDescription: SMD Inductor, 2-Leads, Body 7.3 x 7.3 mm; ComponentLink1Description: Manufacturer URL; ComponentLink1URL: http://www.we-online.com; ComponentLink2Description: Datasheet; ComponentLink2URL: http://www.we-online.de/katalog/media/pdf/744777118.pdf
footprint WE-PD-M (SMD Inductor, 2-Leads, Body 7.3x7.3x4.5 mm)
pins: 1, 2

## 744777122
designator L?
SMD-Shielded Power Inductor WE-PD, L = 22.0 µH; PartNumber: 744777122; Inductance: 22.0 µH; DatasheetVersion: ver 2, Oct-2004; PackageReference: WE-PD-M; PackageDescription: SMD Inductor, 2-Leads, Body 7.3 x 7.3 mm; ComponentLink1Description: Manufacturer URL; ComponentLink1URL: http://www.we-online.com; ComponentLink2Description: Datasheet; ComponentLink2URL: http://www.we-online.de/katalog/media/pdf/744777122.pdf
footprint WE-PD-M (SMD Inductor, 2-Leads, Body 7.3x7.3x4.5 mm)
pins: 1, 2

## 744777127
designator L?
SMD-Shielded Power Inductor WE-PD, L = 27.0 µH; PartNumber: 744777127; Inductance: 27.0 µH; DatasheetVersion: ver 2, Oct-2004; PackageReference: WE-PD-M; PackageDescription: SMD Inductor, 2-Leads, Body 7.3 x 7.3 mm; ComponentLink1Description: Manufacturer URL; ComponentLink1URL: http://www.we-online.com; ComponentLink2Description: Datasheet; ComponentLink2URL: http://www.we-online.de/katalog/media/pdf/744777127.pdf
footprint WE-PD-M (SMD Inductor, 2-Leads, Body 7.3x7.3x4.5 mm)
pins: 1, 2

## 744777133
designator L?
SMD-Shielded Power Inductor WE-PD, L = 33.0 µH; PartNumber: 744777133; Inductance: 33.0 µH; DatasheetVersion: ver 2, Oct-2004; PackageReference: WE-PD-M; PackageDescription: SMD Inductor, 2-Leads, Body 7.3 x 7.3 mm; ComponentLink1Description: Manufacturer URL; ComponentLink1URL: http://www.we-online.com; ComponentLink2Description: Datasheet; ComponentLink2URL: http://www.we-online.de/katalog/media/pdf/744777133.pdf
footprint WE-PD-M (SMD Inductor, 2-Leads, Body 7.3x7.3x4.5 mm)
pins: 1, 2

## 744777139
designator L?
SMD-Shielded Power Inductor WE-PD, L = 39.0 µH; PartNumber: 744777139; Inductance: 39.0 µH; DatasheetVersion: ver 2, Oct-2004; PackageReference: WE-PD-M; PackageDescription: SMD Inductor, 2-Leads, Body 7.3 x 7.3 mm; ComponentLink1Description: Manufacturer URL; ComponentLink1URL: http://www.we-online.com; ComponentLink2Description: Datasheet; ComponentLink2URL: http://www.we-online.de/katalog/media/pdf/744777139.pdf
footprint WE-PD-M (SMD Inductor, 2-Leads, Body 7.3x7.3x4.5 mm)
pins: 1, 2

## 744777147
designator L?
SMD-Shielded Power Inductor WE-PD, L = 47.0 µH; PartNumber: 744777147; Inductance: 47.0 µH; DatasheetVersion: ver 3, Jan-2006; PackageReference: WE-PD-M; PackageDescription: SMD Inductor, 2-Leads, Body 7.3 x 7.3 mm; ComponentLink1Description: Manufacturer URL; ComponentLink1URL: http://www.we-online.com; ComponentLink2Description: Datasheet; ComponentLink2URL: http://www.we-online.de/katalog/media/pdf/744777147.pdf
footprint WE-PD-M (SMD Inductor, 2-Leads, Body 7.3x7.3x4.5 mm)
pins: 1, 2

## 744777156
designator L?
SMD-Shielded Power Inductor WE-PD, L = 56.0 µH; PartNumber: 744777156; Inductance: 56.0 µH; DatasheetVersion: ver 2, Oct-2004; PackageReference: WE-PD-M; PackageDescription: SMD Inductor, 2-Leads, Body 7.3 x 7.3 mm; ComponentLink1Description: Manufacturer URL; ComponentLink1URL: http://www.we-online.com; ComponentLink2Description: Datasheet; ComponentLink2URL: http://www.we-online.de/katalog/media/pdf/744777156.pdf
footprint WE-PD-M (SMD Inductor, 2-Leads, Body 7.3x7.3x4.5 mm)
pins: 1, 2

## 744777168
designator L?
SMD-Shielded Power Inductor WE-PD, L = 68.0 µH; PartNumber: 744777168; Inductance: 68.0 µH; DatasheetVersion: ver 2, Oct-2004; PackageReference: WE-PD-M; PackageDescription: SMD Inductor, 2-Leads, Body 7.3 x 7.3 mm; ComponentLink1Description: Manufacturer URL; ComponentLink1URL: http://www.we-online.com; ComponentLink2Description: Datasheet; ComponentLink2URL: http://www.we-online.de/katalog/media/pdf/744777168.pdf
footprint WE-PD-M (SMD Inductor, 2-Leads, Body 7.3x7.3x4.5 mm)
pins: 1, 2

## 744777182
designator L?
SMD-Shielded Power Inductor WE-PD, L = 82.0 µH; PartNumber: 744777182; Inductance: 82.0 µH; DatasheetVersion: ver 2, Oct-2004; PackageReference: WE-PD-M; PackageDescription: SMD Inductor, 2-Leads, Body 7.3 x 7.3 mm; ComponentLink1Description: Manufacturer URL; ComponentLink1URL: http://www.we-online.com; ComponentLink2Description: Datasheet; ComponentLink2URL: http://www.we-online.de/katalog/media/pdf/744777182.pdf
footprint WE-PD-M (SMD Inductor, 2-Leads, Body 7.3x7.3x4.5 mm)
pins: 1, 2

## 744777212
designator L?
SMD-Shielded Power Inductor WE-PD, L = 120 µH; PartNumber: 744777212; Inductance: 120 µH; DatasheetVersion: ver 2, Oct-2004; PackageReference: WE-PD-M; PackageDescription: SMD Inductor, 2-Leads, Body 7.3 x 7.3 mm; ComponentLink1Description: Manufacturer URL; ComponentLink1URL: http://www.we-online.com; ComponentLink2Description: Datasheet; ComponentLink2URL: http://www.we-online.de/katalog/media/pdf/744777212.pdf
footprint WE-PD-M (SMD Inductor, 2-Leads, Body 7.3x7.3x4.5 mm)
pins: 1, 2

## 744777215
designator L?
SMD-Shielded Power Inductor WE-PD, L = 150 µH; PartNumber: 744777215; Inductance: 150 µH; DatasheetVersion: ver 2, Oct-2004; PackageReference: WE-PD-M; PackageDescription: SMD Inductor, 2-Leads, Body 7.3 x 7.3 mm; ComponentLink1Description: Manufacturer URL; ComponentLink1URL: http://www.we-online.com; ComponentLink2Description: Datasheet; ComponentLink2URL: http://www.we-online.de/katalog/media/pdf/744777215.pdf
footprint WE-PD-M (SMD Inductor, 2-Leads, Body 7.3x7.3x4.5 mm)
pins: 1, 2

## 744777218
designator L?
SMD-Shielded Power Inductor WE-PD, L = 180 µH; PartNumber: 744777218; Inductance: 180 µH; DatasheetVersion: ver 2, Oct-2004; PackageReference: WE-PD-M; PackageDescription: SMD Inductor, 2-Leads, Body 7.3 x 7.3 mm; ComponentLink1Description: Manufacturer URL; ComponentLink1URL: http://www.we-online.com; ComponentLink2Description: Datasheet; ComponentLink2URL: http://www.we-online.de/katalog/media/pdf/744777218.pdf
footprint WE-PD-M (SMD Inductor, 2-Leads, Body 7.3x7.3x4.5 mm)
pins: 1, 2

## 744777222
designator L?
SMD-Shielded Power Inductor WE-PD, L = 220 µH; PartNumber: 744777222; Inductance: 220 µH; DatasheetVersion: ver 2, Oct-2004; PackageReference: WE-PD-M; PackageDescription: SMD Inductor, 2-Leads, Body 7.3 x 7.3 mm; ComponentLink1Description: Manufacturer URL; ComponentLink1URL: http://www.we-online.com; ComponentLink2Description: Datasheet; ComponentLink2URL: http://www.we-online.de/katalog/media/pdf/744777222.pdf
footprint WE-PD-M (SMD Inductor, 2-Leads, Body 7.3x7.3x4.5 mm)
pins: 1, 2